# Altium footprint library PcbLib1.PcbLib: 2 footprints
Each footprint in its own frame and in the unit in brackets; x right, y up, seen from the top. Pads: shape width x height; smd on the part's side, far side on the other; paste and mask are expansions set on the pad; w line width, h text height; cw(c..) or ccw(c..) is an arc to the next point about the centre after c.
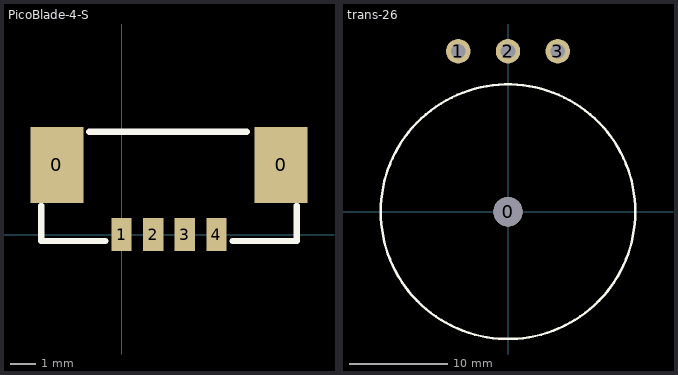
[diagram p0: the footprints below, top view; thin cyan lines are the x and y axes]

## PicoBlade-4-S [mm]
pads (6):
  rect 2.1x3 smd: 0(-2.55,2.75) 0(6.3,2.75)
  rect 0.8x1.3 smd: 1(0,0) 2(1.25,0) 3(2.5,0) 4(3.75,0)
Top Overlay:
  lines w0.254: -3.175,1.143 -3.175,-0.254 -0.635,-0.254 ; -1.27,4.064 4.953,4.064 ; 4.385,-0.254 6.925,-0.254 6.925,1.143
3D body "533980471.stp": height 4.7, standoff 0, extent -3.18,-0.18 6.97,4.02

## trans-26 [mm]
pads (4):
  round 3 hole 3: 0(0,0)
  round 2.5 hole 1.5: 1(-5.08,16.383) 2(0,16.383) 3(5.08,16.383)
Top Overlay:
  circle w0.254: c0,0 r13